# EAGLE library part ADS1222 (library texas)
24-BIT ADC W/2CH MUX
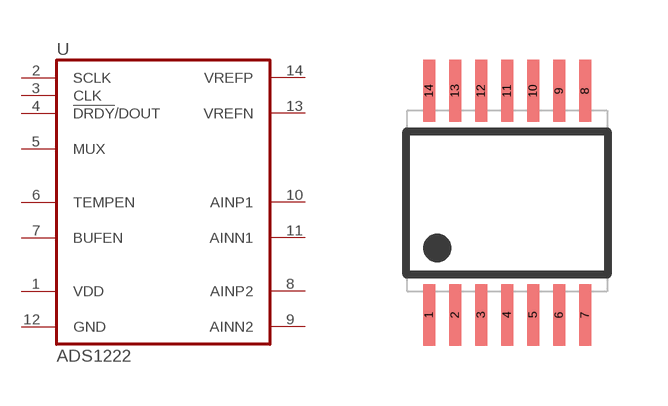
[diagram p110: symbol with the pads of TSSOP14; footprint TSSOP14]

Designator prefix U

## ADS1222  [TSSOP14]
1  VDD  pwr
2  SCLK  in
3  CLK  in
4  !DRDY!/DOUT  out
5  MUX  in
6  TEMPEN  in
7  BUFEN  in
8  AINP2  in
9  AINN2  in
10  AINP1  in
11  AINN1  in
12  GND  pwr
13  VREFN  in
14  VREFP  in

## Footprint TSSOP14 (pad centres in mm)
Thin Shrink Small Outline Plastic 14
smd 0.3 x 1.55: 1 -1.95,-2.8; 2 -1.3,-2.8; 3 -0.65,-2.8; 4 0,-2.8; 5 0.65,-2.8; 6 1.3,-2.8; 7 1.95,-2.8; 8 1.95,2.8; 9 1.3,2.8; 10 0.65,2.8; 11 0,2.8; 12 -0.65,2.8; 13 -1.3,2.8; 14 -1.95,2.8